# Altium footprint library TMC4671-EVAL_V1_2.PcbLib: 21 footprints (part 1 of 2)
Each footprint in its own frame and in the unit in brackets; x right, y up, seen from the top. Pads: shape width x height; smd on the part's side, far side on the other; paste and mask are expansions set on the pad; w line width, h text height; cw(c..) or ccw(c..) is an arc to the next point about the centre after c.
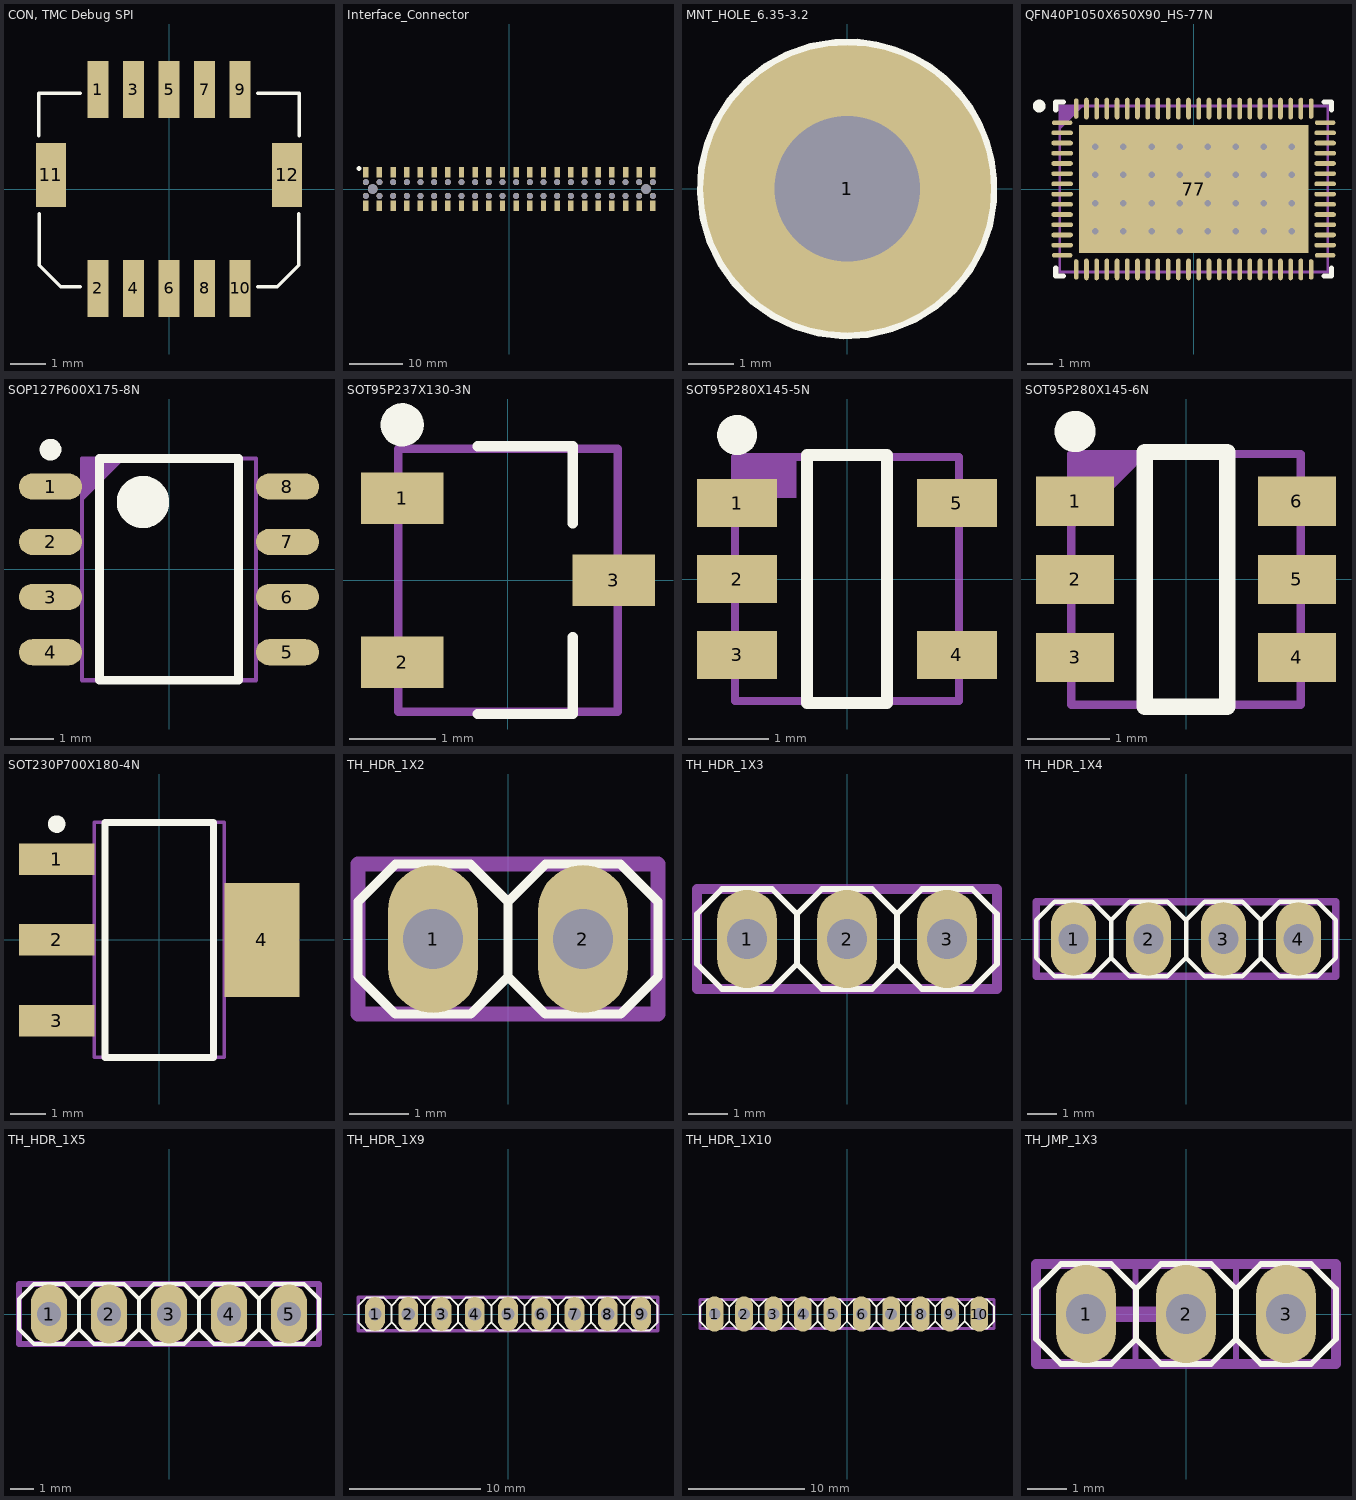
[diagram p0: the footprints below, top view; thin cyan lines are the x and y axes]

## CON, TMC Debug SPI [mm]
pads (12):
  rect 0.6x1.6 smd: 1(-2,2.8) 2(-2,-2.8) 3(-1,2.8) 4(-1,-2.8) 5(0,2.8) 6(0,-2.8) 7(1,2.8) 8(1,-2.8) 9(2,2.8) 10(2,-2.8)
  rect 0.85x1.8 smd: 11(-3.325,0.4) 12(3.325,0.4)
Top Overlay:
  lines w0.1: -3.675,1.5 -3.675,2.7 -2.5,2.7 ; -3.65,-0.7 -3.65,-2.15 -3.05,-2.75 -2.5,-2.75 ; 2.5,-2.75 3.05,-2.75 3.65,-2.15 3.65,-0.7 ; 2.5,2.7 3.675,2.7 3.675,1.5
TopAsm:
  text ".Designator" at -2.589,-0.401 h1
3D body "DF20F-10DP-1V.stp": height 4.6, standoff 0, extent -3.65,-3.225 3.65,3.175

## Interface_Connector [mil]
pads (90):
  rect 40x75 smd: 1(-1050,122.72) 2(-1050,-122.72) 3(-950,122.72) 4(-950,-122.72) 5(-850,122.72) 6(-850,-122.72) 7(-750,122.72) 8(-750,-122.72) 9(-650,122.72) 10(-650,-122.72) 11(-550,122.72) 12(-550,-122.72) 13(-450,122.72) 14(-450,-122.72) 15(-350,122.72) 16(-350,-122.72) 17(-250,122.72) 18(-250,-122.72) 19(-150,122.72) 20(-150,-122.72) 21(-50,122.72) 22(-50,-122.72) 23(50,122.72) 24(50,-122.72) 25(150,122.72) 26(150,-122.72) 27(250,122.72) 28(250,-122.72) 29(350,122.72) 30(350,-122.72) 31(450,122.72) 32(450,-122.72) 33(550,122.72) 34(550,-122.72) 35(650,122.72) 36(650,-122.72) 37(750,122.72) 38(750,-122.72) 39(850,122.72) 40(850,-122.72) 41(950,122.72) 42(950,-122.72) 43(1050,122.72) 44(1050,-122.72)
  round 44 hole 44: HOLE(-1050,-50.28) HOLE(-1050,49.72) HOLE(-950,-50.28) HOLE(-950,49.72) HOLE(-850,-50.28) HOLE(-850,49.72) HOLE(-750,-50.28) HOLE(-750,49.72) HOLE(-650,-50.28) HOLE(-650,49.72) HOLE(-550,-50.28) HOLE(-550,49.72) HOLE(-450,-50.28) HOLE(-450,49.72) HOLE(-350,-50.28) HOLE(-350,49.72) HOLE(-250,-50.28) HOLE(-250,49.72) HOLE(-150,-50.28) HOLE(-150,49.72) HOLE(-50,-50.28) HOLE(-50,49.72) HOLE(50,-50.28) HOLE(50,49.72) HOLE(150,-50.28) HOLE(150,49.72) HOLE(250,-50.28) HOLE(250,49.72) HOLE(350,-50.28) HOLE(350,49.72) HOLE(450,-50.28) HOLE(450,49.72) HOLE(550,-50.28) HOLE(550,49.72) HOLE(650,-50.28) HOLE(650,49.72) HOLE(750,-50.28) HOLE(750,49.72) HOLE(850,-50.28) HOLE(850,49.72) HOLE(950,-50.28) HOLE(950,49.72) HOLE(1050,-50.28) HOLE(1050,49.72)
  round 71 hole 71: HOLE(-1000,-0.28) HOLE(1000,-0.28)
Top Overlay:
  circle w19.68: c-1100,150 r7.07
TopAsm:
  text ".Designator" at -155,-40 h118.11
3D body "HLE-122-02-L-DV.stp": height 143.51, standoff -0.49, extent -1100,-129.49 1100,129.51

## MNT_HOLE_6.35-3.2 [mm]
pads (1):
  round 6.35 hole 3.2: 1(0,0)
Top Overlay:
  pour cut-out: 0,3.302 -0.279,3.302 -0.828,3.209 -1.354,3.025 -1.841,2.755 -2.277,2.408 -2.648,1.993 -2.944,1.521 -3.157,1.006 -3.281,0.463 -3.312,-0.093 -3.25,-0.647 -3.096,-1.182 -2.854,-1.684 -2.532,-2.138 -2.138,-2.532 -1.684,-2.854 -1.182,-3.096 -0.646,-3.25 -0.093,-3.312 0.463,-3.281 1.006,-3.157 1.521,-2.944 1.993,-2.648 2.408,-2.277 2.755,-1.841 3.025,-1.353 3.209,-0.828 3.302,-0.279 3.302,0 3.302,0.216 3.246,0.646 3.133,1.064 2.968,1.464 2.751,1.838 2.488,2.182 2.182,2.488 1.838,2.751 1.464,2.968 1.064,3.134 0.646,3.246 0.216,3.302
Bottom Overlay:
  pour cut-out: 0,3.302 -0.279,3.302 -0.828,3.209 -1.354,3.025 -1.841,2.755 -2.277,2.408 -2.648,1.993 -2.944,1.521 -3.157,1.006 -3.281,0.463 -3.312,-0.093 -3.25,-0.647 -3.096,-1.182 -2.854,-1.684 -2.532,-2.138 -2.138,-2.532 -1.684,-2.854 -1.182,-3.096 -0.646,-3.25 -0.093,-3.312 0.463,-3.281 1.006,-3.157 1.521,-2.944 1.993,-2.648 2.408,-2.277 2.755,-1.841 3.025,-1.353 3.209,-0.828 3.302,-0.279 3.302,0 3.302,0.216 3.246,0.646 3.133,1.064 2.968,1.464 2.751,1.838 2.488,2.182 2.182,2.488 1.838,2.751 1.464,2.968 1.064,3.134 0.646,3.246 0.216,3.302

## QFN40P1050X650X90_HS-77N [mm] "QFN, 76-Leads, Body 10,50x6,50mm, Pitch 0,40mm, Thermal Pad 9,00x5,00mm, IPC Medium Density"
height 0.9
pads (77):
  oval 0.8x0.182 smd mask+0.051: 1(-5.15,2.6) 14(-5.15,-2.6) 39(5.15,-2.6) 52(5.15,2.6)
  oval 0.85x0.182 smd mask+0.051: 2(-5.15,2.2) 3(-5.15,1.8) 4(-5.15,1.4) 5(-5.15,1) 6(-5.15,0.6) 7(-5.15,0.2) 8(-5.15,-0.2) 9(-5.15,-0.6) 10(-5.15,-1) 11(-5.15,-1.4) 12(-5.15,-1.8) 13(-5.15,-2.2) 40(5.15,-2.2) 41(5.15,-1.8) 42(5.15,-1.4) 43(5.15,-1) 44(5.15,-0.6) 45(5.15,-0.2) 46(5.15,0.2) 47(5.15,0.6) 48(5.15,1) 49(5.15,1.4) 50(5.15,1.8) 51(5.15,2.2)
  oval 0.182x0.8 smd mask+0.051: 15(-4.6,-3.15) 38(4.6,-3.15) 53(4.6,3.15) 76(-4.6,3.15)
  oval 0.182x0.85 smd mask+0.051: 16(-4.2,-3.15) 17(-3.8,-3.15) 18(-3.4,-3.15) 19(-3,-3.15) 20(-2.6,-3.15) 21(-2.2,-3.15) 22(-1.8,-3.15) 23(-1.4,-3.15) 24(-1,-3.15) 25(-0.6,-3.15) 26(-0.2,-3.15) 27(0.2,-3.15) 28(0.6,-3.15) 29(1,-3.15) 30(1.4,-3.15) 31(1.8,-3.15) 32(2.2,-3.15) 33(2.6,-3.15) 34(3,-3.15) 35(3.4,-3.15) 36(3.8,-3.15) 37(4.2,-3.15) 54(4.2,3.15) 55(3.8,3.15) 56(3.4,3.15) 57(3,3.15) 58(2.6,3.15) 59(2.2,3.15) 60(1.8,3.15) 61(1.4,3.15) 62(1,3.15) 63(0.6,3.15) 64(0.2,3.15) 65(-0.2,3.15) 66(-0.6,3.15) 67(-1,3.15) 68(-1.4,3.15) 69(-1.8,3.15) 70(-2.2,3.15) 71(-2.6,3.15) 72(-3,3.15) 73(-3.4,3.15) 74(-3.8,3.15) 75(-4.2,3.15)
  rect 9x5 smd: 77(0,0)
via -3.85,1.65 diameter 0.61 hole 0.254
via -2.75,1.65 diameter 0.61 hole 0.254
via -1.65,1.65 diameter 0.61 hole 0.254
via -0.55,1.65 diameter 0.61 hole 0.254
via 0.55,1.65 diameter 0.61 hole 0.254
via 1.65,1.65 diameter 0.61 hole 0.254
via 2.75,1.65 diameter 0.61 hole 0.254
via 3.85,1.65 diameter 0.61 hole 0.254
via -3.85,0.55 diameter 0.61 hole 0.254
via -2.75,0.55 diameter 0.61 hole 0.254
via -1.65,0.55 diameter 0.61 hole 0.254
via -0.55,0.55 diameter 0.61 hole 0.254
via 0.55,0.55 diameter 0.61 hole 0.254
via 1.65,0.55 diameter 0.61 hole 0.254
via 2.75,0.55 diameter 0.61 hole 0.254
via 3.85,0.55 diameter 0.61 hole 0.254
via -3.85,-0.55 diameter 0.61 hole 0.254
via -2.75,-0.55 diameter 0.61 hole 0.254
via -1.65,-0.55 diameter 0.61 hole 0.254
via -0.55,-0.55 diameter 0.61 hole 0.254
via 0.55,-0.55 diameter 0.61 hole 0.254
via 1.65,-0.55 diameter 0.61 hole 0.254
via 2.75,-0.55 diameter 0.61 hole 0.254
via 3.85,-0.55 diameter 0.61 hole 0.254
via -3.85,-1.65 diameter 0.61 hole 0.254
via -2.75,-1.65 diameter 0.61 hole 0.254
via -1.65,-1.65 diameter 0.61 hole 0.254
via -0.55,-1.65 diameter 0.61 hole 0.254
via 0.55,-1.65 diameter 0.61 hole 0.254
via 1.65,-1.65 diameter 0.61 hole 0.254
via 2.75,-1.65 diameter 0.61 hole 0.254
via 3.85,-1.65 diameter 0.61 hole 0.254
Top Overlay:
  circle w0.25: c-6.05,3.25 r0.125
  lines w0.2: -5.4,-3.1 -5.4,-3.4 -5.1,-3.4 ; -5.4,3.1 -5.4,3.4 -5.1,3.4 ; 5.1,-3.4 5.4,-3.4 5.4,-3.1 ; 5.1,3.4 5.4,3.4 5.4,3.1
TopAsm:
  region: -5.25,3.25 -5.25,2.318 -4.318,3.25
  lines w0.1: -5.25,-3.25 5.25,-3.25 5.25,3.25 -5.25,3.25 -5.25,-3.25
  text ".Designator" at -3.014,-0.451 h1
3D body "QFN40P1050X650X90_HS-77N.step": height 0.9, standoff 0, extent -5.251,-3.251 5.251,3.251

## SOP127P600X175-8N [mm] "SOP, 8-Leads, Body 4,92x3,90mm, Pitch 1,27mm, IPC Medium Density"
height 1.75
pads (8):
  oval 1.45x0.6 smd: 1(-2.725,1.905) 2(-2.725,0.635) 3(-2.725,-0.635) 4(-2.725,-1.905) 5(2.725,-1.905) 6(2.725,-0.635) 7(2.725,0.635) 8(2.725,1.905)
Top Overlay:
  circle w0.25: c-2.725,2.755 r0.125
  circle w0.6: c-0.6,1.55 r0.3
  lines w0.2: -1.6,-2.55 -1.6,2.55 1.6,2.55 1.6,-2.55 -1.6,-2.55
TopAsm:
  region: -2,2.55 -2,1.566 -1.016,2.55
  lines w0.1: -2,-2.55 2,-2.55 2,2.55 -2,2.55 -2,-2.55
  text ".Designator" at 0.508,-2.032 h1.27
3D body "SOP127P600X175-8N.step": height 1.75, standoff 0, extent -2.997,-2.55 2.997,2.55

## SOT95P237X130-3N [mm] "SOT23, 3-Leads, Body 2,90x2,37mm, Pitch 0,95mm, IPC Medium Density"
height 1.3
pads (3):
  rect 0.95x0.6 smd: 1(-1.225,0.95) 2(-1.225,-0.95) 3(1.225,0)
Top Overlay:
  circle w0.25: c-1.225,1.8 r0.125
  lines w0.12: -0.35,-1.55 0.75,-1.55 0.75,-0.66 ; -0.35,1.55 0.75,1.55 0.75,0.66
TopAsm:
  lines w0.1: -1.27,-1.524 -1.27,1.524 1.27,1.524 1.27,-1.524 -1.27,-1.524
  text ".Designator" at 0.254,-1.016 h0.76
3D body "SOT95P237X130-3N.step": height 1.3, standoff 0, extent -1.32,-1.55 1.32,1.55

## SOT95P280X145-5N [mm] "SOT23, 5-Leads, Body 2,90x2,80mm, Pitch 0,95mm, IPC Medium Density"
height 1.45
pads (5):
  rect 1x0.6 smd: 1(-1.375,0.95) 2(-1.375,0) 3(-1.375,-0.95) 4(1.375,-0.95) 5(1.375,0.95)
Top Overlay:
  circle w0.25: c-1.375,1.8 r0.125
  lines w0.15: -0.5,-1.55 -0.5,1.55 0.5,1.55 0.5,-1.55 -0.5,-1.55
TopAsm:
  region: -1.397,1.525 -1.397,1.016 -0.635,1.016 -0.635,1.524
  lines w0.1: -1.397,-1.525 -1.397,1.525 1.397,1.525 1.397,-1.525 -1.397,-1.525
  text ".Designator" at 0.451,-1.236 h1
3D body "SOT95P280X145-5N.step": height 1.45, standoff 0, extent -1.5,-1.525 1.5,1.525

## SOT95P280X145-6N [mm] "SOT23, 6-Leads, Body 2,95x2,80mm, Pitch 0,95mm, IPC Medium Density"
height 1.45
pads (6):
  rect 0.95x0.6 smd: 1(-1.35,0.95) 2(-1.35,0) 3(-1.35,-0.95) 4(1.35,-0.95) 5(1.35,0) 6(1.35,0.95)
Top Overlay:
  circle w0.25: c-1.35,1.8 r0.125
  lines w0.2: -0.5,-1.55 0.5,-1.55 0.5,1.55 -0.5,1.55 -0.5,-1.55
TopAsm:
  region: -1.397,1.525 -1.397,0.593 -0.465,1.525
  lines w0.1: -1.397,-1.525 -1.397,1.525 1.397,1.525 1.397,-1.525 -1.397,-1.525
  text ".Designator" at 0.451,-1.236 h1
3D body "SOT95P280X145-6N.step": height 1.45, standoff 0, extent -1.4,-1.55 1.4,1.55

## SOT230P700X180-4N [mm] "SOT223, 4-Leads, Body 6,50x7,00mm (avg), Pitch 2,30mm, IPC Medium Density"
height 1.8
pads (4):
  rect 2.15x0.9 smd: 1(-2.925,2.3) 2(-2.925,0) 3(-2.925,-2.3)
  rect 2.15x3.25 smd: 4(2.925,0)
Top Overlay:
  circle w0.25: c-2.925,3.3 r0.125
  lines w0.2: -1.55,-3.35 -1.55,3.35 1.55,3.35 1.55,-3.35 -1.55,-3.35
TopAsm:
  lines w0.1: -1.85,-3.35 1.85,-3.35 1.85,3.35 -1.85,3.35 -1.85,-3.35
  text ".Designator" at 0.451,-1.998 h1.27
3D body "SOT230P700X180-4N.step": height 1.8, standoff 0, extent -3.5,-3.35 3.5,3.35

## TH_HDR_1X2 [mil]
pads (2):
  oval 60x98.43 hole 40: 1(-50,0) 2(50,0)
Top Overlay:
  lines w6: 0,-25 0,25 ; 0,-25 -25,-50 -75,-50 -100,-25 -100,25 -75,50 -25,50 0,25 ; 0,-25 25,-50 75,-50 100,-25 100,25 75,50 25,50 0,25
TopAsm:
  lines w10: -100,-50 100,-50 99.99,50.01 -100,50 -100,-50
  text ".Designator" at -48.66,-17.76 h39.37
3D body "Pin Header 1x1 TH 2.54mm Pitch.stp": height 351, standoff -99, extent -100.01,-49.99 -0.01,50.01
3D body "Pin Header 1x1 TH 2.54mm Pitch.stp": height 351, standoff -99, extent -0.01,-49.99 99.99,50.01

## TH_HDR_1X3 [mil]
pads (3):
  oval 60x98.43 hole 40: 1(-100,0) 2(0,0) 3(100,0)
Top Overlay:
  lines w6: -50,-25 -25,-50 25,-50 50,-25 ; -50,-25 -75,-50 -125,-50 -150,-25 -150,25 -125,50 -75,50 -50,25 ; -50,-25 -50,25 ; -50,25 -25,50 25,50 50,25 ; 50,-25 75,-50 125,-50 150,-25 150,25 125,50 75,50 50,25 ; 50,-25 50,25
TopAsm:
  lines w10: -150,-50 -150,50 150,50 150,-50 -150,-50
  text ".Designator" at -98.66,-17.76 h39.37
3D body "Pin Header 1x1 TH 2.54mm Pitch.stp": height 351, standoff -99, extent 49.99,-49.99 149.99,50.01
3D body "Pin Header 1x1 TH 2.54mm Pitch.stp": height 351, standoff -99, extent -50.01,-49.99 49.99,50.01
3D body "Pin Header 1x1 TH 2.54mm Pitch.stp": height 351, standoff -99, extent -150.01,-49.99 -50.01,50.01

## TH_HDR_1X4 [mil]
pads (4):
  oval 60x98.43 hole 40: 1(-150,0) 2(-50,0) 3(50,0) 4(150,0)
Top Overlay:
  lines w6: -100,-25 -100,25 ; -100,-25 -125,-50 -175,-50 -200,-25 -200,25 -175,50 -125,50 -100,25 ; -100,-25 -75,-50 -25,-50 0,-25 ; -100,25 -75,50 -25,50 0,25 ; 0,-25 0,25 ; 0,-25 25,-50 75,-50 100,-25 ; 0,25 25,50 75,50 100,25 ; 100,-25 100,25 ; 100,-25 125,-50 175,-50 200,-25 200,25 175,50 125,50 100,25 ; 100,-25 100,25
Mechanical 18:
  rectangle: 40,-10 60,10
  rectangle: -160,-10 -140,10
  rectangle: -60,-10 -40,10
TopAsm:
  lines w10: -200,-50 -200,50 200,50 200,-50 -200,-50
  text ".Designator" at -148.66,-17.76 h39.37
3D body "Pin Header 1x1 TH 2.54mm Pitch.stp": height 351, standoff -99, extent -200.01,-49.99 -100.01,50.01
3D body "Pin Header 1x1 TH 2.54mm Pitch.stp": height 351, standoff -99, extent -100.01,-49.99 -0.01,50.01
3D body "Pin Header 1x1 TH 2.54mm Pitch.stp": height 351, standoff -99, extent -0.01,-49.99 99.99,50.01
3D body "Pin Header 1x1 TH 2.54mm Pitch.stp": height 351, standoff -99, extent 99.99,-49.99 199.99,50.01

## TH_HDR_1X5 [mil]
pads (5):
  oval 60x98.43 hole 40: 1(-200,0) 2(-100,0) 3(0,0) 4(100,0) 5(200,0)
Top Overlay:
  lines w6: -150,-25 -125,-50 -75,-50 -50,-25 ; -150,-25 -175,-50 -225,-50 -250,-25 -250,25 -225,50 -175,50 -150,25 ; -150,-25 -150,25 ; -150,25 -125,50 -75,50 -50,25 ; -50,-25 -25,-50 25,-50 50,-25 ; -50,-25 -50,25 ; -50,25 -25,50 25,50 50,25 ; 50,-25 50,25 ; 50,-25 75,-50 125,-50 150,-25 ; 50,-25 50,25 ; 50,25 75,50 125,50 150,25 ; 150,-25 150,25 ; 150,-25 175,-50 225,-50 250,-25 250,25 225,50 175,50 150,25 ; 150,-25 150,25 ; 150,-25 150,25
TopAsm:
  lines w10: -250,-50 250,-50 250,50 -250,50 -250,-50
  text ".Designator" at -198.66,-17.76 h39.37
3D body "Pin Header 1x1 TH 2.54mm Pitch.stp": height 351, standoff -99, extent 149.99,-49.99 249.99,50.01
3D body "Pin Header 1x1 TH 2.54mm Pitch.stp": height 351, standoff -99, extent 49.99,-49.99 149.99,50.01
3D body "Pin Header 1x1 TH 2.54mm Pitch.stp": height 351, standoff -99, extent -50.01,-49.99 49.99,50.01
3D body "Pin Header 1x1 TH 2.54mm Pitch.stp": height 351, standoff -99, extent -150.01,-49.99 -50.01,50.01
3D body "Pin Header 1x1 TH 2.54mm Pitch.stp": height 351, standoff -99, extent -250.01,-49.99 -150.01,50.01

## TH_HDR_1X9 [mil]
pads (9):
  oval 60x102.36 hole 40: 1(-400,0) 2(-300,0) 3(-200,0) 4(-100,0) 5(0,0) 6(100,0) 7(200,0) 8(300,0) 9(400,0)
Top Overlay:
  lines w6: -350,-25 -325,-50 -275,-50 -250,-25 ; -350,-25 -375,-50 -425,-50 -450,-25 -450,25 -425,50 -375,50 -350,25 ; -350,-25 -350,25 ; -350,25 -325,50 -275,50 -250,25 ; -250,-25 -225,-50 -175,-50 -150,-25 ; -250,-25 -250,25 ; -250,25 -225,50 -175,50 -150,25 ; -150,-25 -150,25 ; -150,-25 -125,-50 -75,-50 -50,-25 ; -150,-25 -150,25 ; -150,25 -125,50 -75,50 -50,25 ; -50,-25 -50,25 ; -50,-25 -25,-50 25,-50 50,-25 ; -50,-25 -50,25 ; -50,-25 -50,25 ; -50,25 -25,50 25,50 50,25 ; 50,-25 50,25 ; 50,-25 75,-50 125,-50 150,-25 ; 50,-25 50,25 ; 50,25 75,50 125,50 150,25 ; 150,-25 150,25 ; 150,-25 175,-50 225,-50 250,-25 ; 150,-25 150,25 ; 150,25 175,50 225,50 250,25 ; 250,-25 250,25 ; 250,-25 250,25 ; 250,-25 275,-50 325,-50 350,-25 ; 250,-25 250,25 ; 250,25 275,50 325,50 350,25 ; 350,-25 350,25 ; 350,-25 375,-50 425,-50 450,-25 450,25 425,50 375,50 350,25 ; 350,-25 350,25 ; 350,-25 350,25 ; 350,-25 350,25
Mechanical 18:
  rectangle: -310,-10 -290,10
  rectangle: -410,-10 -390,10
  rectangle: -210,-10 -190,10
TopAsm:
  lines w10: -450,-50 449.99,-50 450,50 -450,50 -450,-50
  text ".Designator" at -198.66,-17.76 h39.37
3D body "Pin Header 1x1 TH 2.54mm Pitch.stp": height 351, standoff -99, extent 349.99,-49.99 449.99,50.01
3D body "Pin Header 1x1 TH 2.54mm Pitch.stp": height 351, standoff -99, extent 49.99,-49.99 149.99,50.01
3D body "Pin Header 1x1 TH 2.54mm Pitch.stp": height 351, standoff -99, extent 149.99,-49.99 249.99,50.01
3D body "Pin Header 1x1 TH 2.54mm Pitch.stp": height 351, standoff -99, extent 249.99,-49.99 349.99,50.01
3D body "Pin Header 1x1 TH 2.54mm Pitch.stp": height 351, standoff -99, extent -50.01,-49.99 49.99,50.01
3D body "Pin Header 1x1 TH 2.54mm Pitch.stp": height 351, standoff -99, extent -150.01,-49.99 -50.01,50.01
3D body "Pin Header 1x1 TH 2.54mm Pitch.stp": height 351, standoff -99, extent -250.01,-49.99 -150.01,50.01
3D body "Pin Header 1x1 TH 2.54mm Pitch.stp": height 351, standoff -99, extent -350.01,-49.99 -250.01,50.01
3D body "Pin Header 1x1 TH 2.54mm Pitch.stp": height 351, standoff -99, extent -450.01,-49.99 -350.01,50.01

## TH_HDR_1X10 [mil]
pads (10):
  oval 60x120 hole 40: 1(-450,0) 2(-350,0) 3(-250,0) 4(-150,0) 5(-50,0) 6(50,0) 7(150,0) 8(250,0) 9(350,0) 10(450,0)
Top Overlay:
  lines w6: -400,-25 -375,-50 -325,-50 -300,-25 ; -400,-25 -425,-50 -475,-50 -500,-25 -500,25 -475,50 -425,50 -400,25 ; -400,-25 -400,25 ; -400,25 -375,50 -325,50 -300,25 ; -300,-25 -275,-50 -225,-50 -200,-25 ; -300,-25 -300,25 ; -300,25 -275,50 -225,50 -200,25 ; -200,-25 -200,25 ; -200,-25 -175,-50 -125,-50 -100,-25 ; -200,-25 -200,25 ; -200,25 -175,50 -125,50 -100,25 ; -100,-25 -100,25 ; -100,-25 -75,-50 -25,-50 0,-25 ; -100,-25 -100,25 ; -100,-25 -100,25 ; -100,25 -75,50 -25,50 0,25 ; 0,-25 0,25 ; 0,-25 25,-50 75,-50 100,-25 ; 0,-25 0,25 ; 0,25 25,50 75,50 100,25 ; 100,-25 100,25 ; 100,-25 125,-50 175,-50 200,-25 ; 100,-25 100,25 ; 100,25 125,50 175,50 200,25 ; 200,-25 200,25 ; 200,-25 200,25 ; 200,-25 225,-50 275,-50 300,-25 ; 200,-25 200,25 ; 200,25 225,50 275,50 300,25 ; 300,-25 300,25 ; 300,-25 325,-50 375,-50 400,-25 ; 300,-25 300,25 ; 300,-25 300,25 ; 300,-25 300,25 ; 300,25 325,50 375,50 400,25 ; 400,-25 400,25 ; 400,-25 400,25 ; 400,-25 400,25 ; 400,-25 400,25 ; 400,-25 425,-50 475,-50 500,-25 500,25 475,50 425,50 400,25 ; 400,-25 400,25
Mechanical 18:
  rectangle: -360,-10 -340,10
  rectangle: -460,-10 -440,10
  rectangle: -260,-10 -240,10
TopAsm:
  lines w10: -500,-50 499.99,-50 500,50 -500,50 -500,-50
  text ".Designator" at -248.66,-17.76 h39.37
3D body "Pin Header 1x1 TH 2.54mm Pitch.stp": height 351, standoff -99, extent 299.99,-49.99 399.99,50.01
3D body "Pin Header 1x1 TH 2.54mm Pitch.stp": height 351, standoff -99, extent -0.01,-49.99 99.99,50.01
3D body "Pin Header 1x1 TH 2.54mm Pitch.stp": height 351, standoff -99, extent 99.99,-49.99 199.99,50.01
3D body "Pin Header 1x1 TH 2.54mm Pitch.stp": height 351, standoff -99, extent 199.99,-49.99 299.99,50.01
3D body "Pin Header 1x1 TH 2.54mm Pitch.stp": height 351, standoff -99, extent -100.01,-49.99 -0.01,50.01
3D body "Pin Header 1x1 TH 2.54mm Pitch.stp": height 351, standoff -99, extent -200.01,-49.99 -100.01,50.01
3D body "Pin Header 1x1 TH 2.54mm Pitch.stp": height 351, standoff -99, extent -300.01,-49.99 -200.01,50.01
3D body "Pin Header 1x1 TH 2.54mm Pitch.stp": height 351, standoff -99, extent -400.01,-49.99 -300.01,50.01
3D body "Pin Header 1x1 TH 2.54mm Pitch.stp": height 351, standoff -99, extent -500.01,-49.99 -400.01,50.01
3D body "Pin Header 1x1 TH 2.54mm Pitch.stp": height 351, standoff -99, extent 399.99,-49.99 499.99,50.01

## TH_JMP_1X3 [mil]
pads (3):
  oval 60x98.43 hole 40: 1(-100,0) 2(0,0) 3(100,0)
Top Overlay:
  lines w6: -50,-25 -25,-50 25,-50 50,-25 ; -50,-25 -75,-50 -125,-50 -150,-25 -150,25 -125,50 -75,50 -50,25 ; -50,-25 -50,25 ; -50,25 -25,50 25,50 50,25 ; 50,-25 75,-50 125,-50 150,-25 150,25 125,50 75,50 50,25 ; 50,-25 50,25
TopAsm:
  drawing of 31 lines, arcs and shapes, not listed
  text ".Designator" at -100,100 h39.37
3D body "User Library-SHORTING JUMPER.step": height 356.14, standoff 123.86, extent -150,-49.99 50,50.01
3D body "Pin Header 1x1 TH 2.54mm Pitch.stp": height 351, standoff -99, extent 49.99,-49.99 149.99,50.01
3D body "Pin Header 1x1 TH 2.54mm Pitch.stp": height 351, standoff -99, extent -50.01,-49.99 49.99,50.01
3D body "Pin Header 1x1 TH 2.54mm Pitch.stp": height 351, standoff -99, extent -150.01,-49.99 -50.01,50.01